# Altium integrated library LED_0603.IntLib: 1 symbol
Pins are listed as number, name and electrical type; pins without a type are passive.

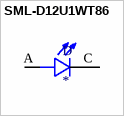
[diagram p0: symbol SML-D12U1WT86]

## SML-D12U1WT86
designator D
Red 620nm LED Indication - Discrete 2.2V 0603 _1608 Metric_; MP: SML-D12U1WT86; MF: Rohm; Package: 0603 Rohm; Price: None; Availability: Unavailable; SnapEDA_Link: https://www.snapeda.com/parts/SML-D12U1WT86/Rohm/view-part/481503/?ref=snap; Value: *
footprint LED_SML-D12Y1WT86
pins: A, C